# Altium integrated library Linear Technology Power Management PMIC Multifunction.IntLib: 360 symbols (part 40 of 42)
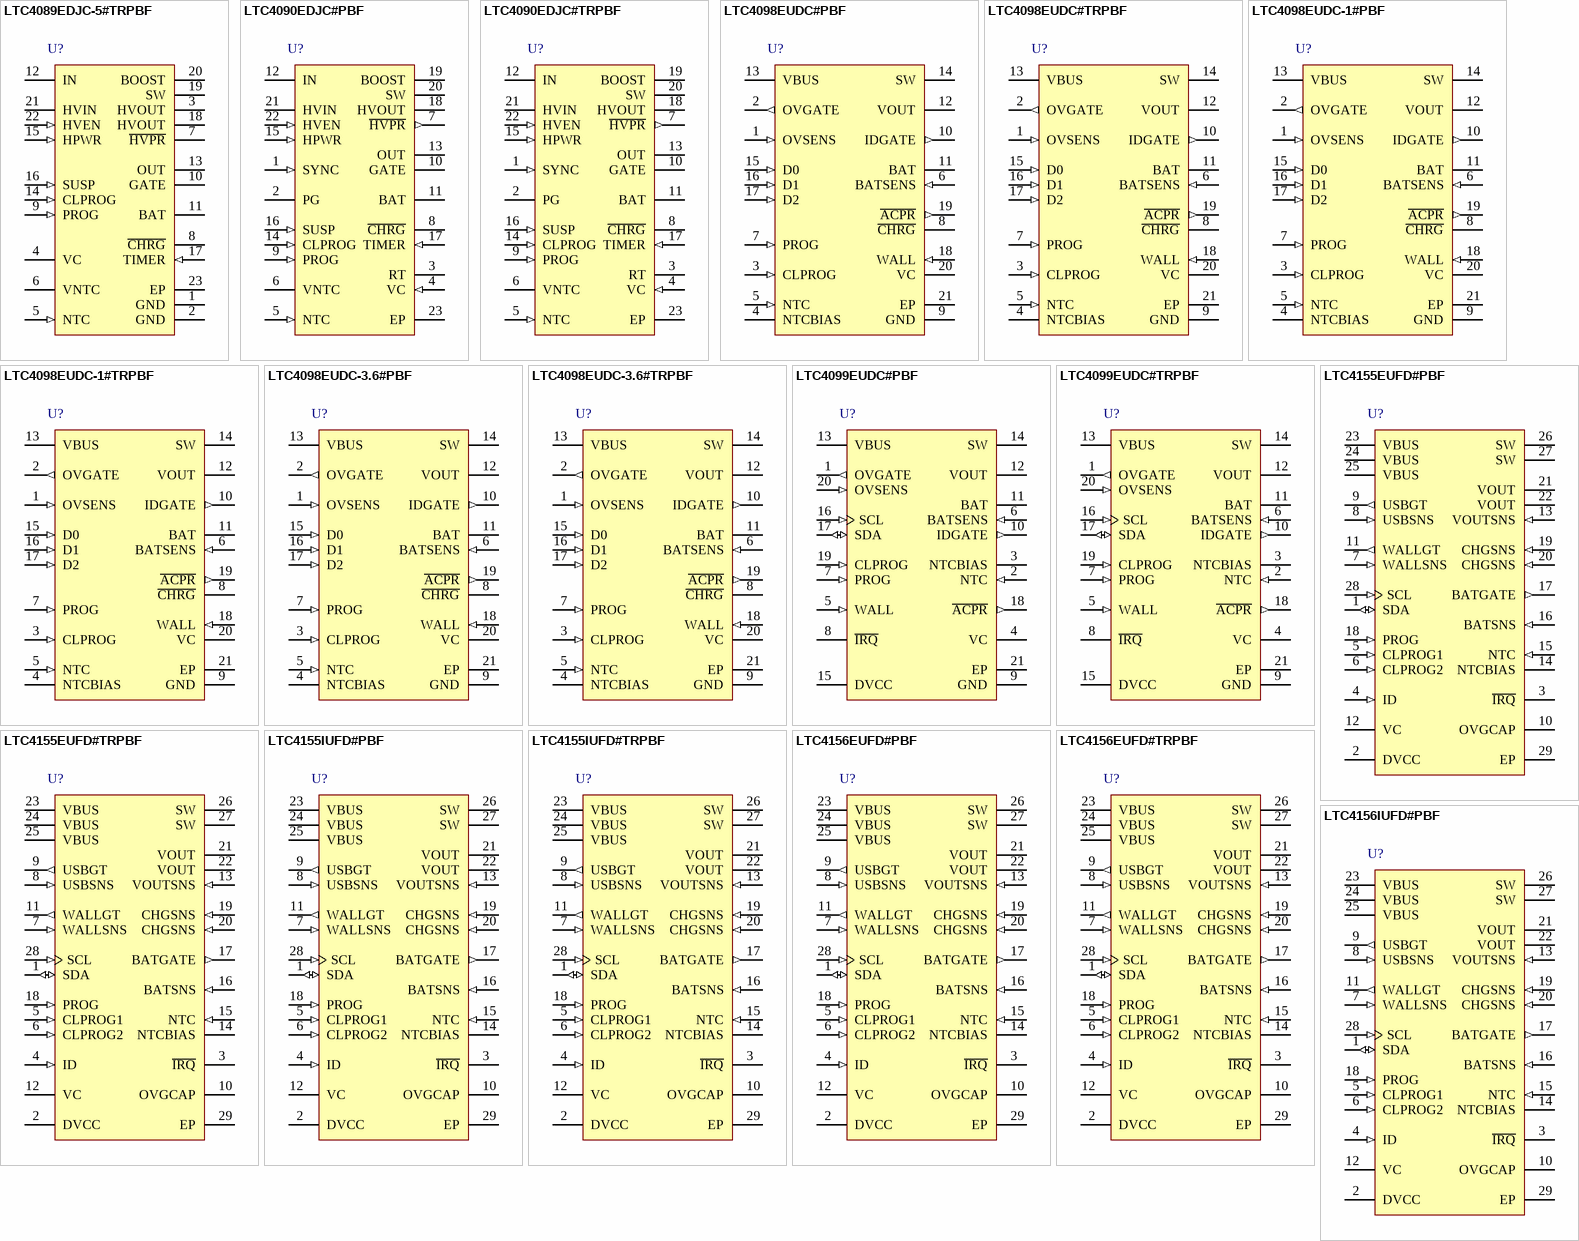
[diagram p57: symbols LTC4089EDJC-5#TRPBF to LTC4156IUFD#PBF]

## LTC4098EUDC-1#TRPBF
designator U?
USB Compatible Switching Power Manager / Li-Ion Charger with Overvoltage Protection, 4.35 to 5.5 V Vin, 20-pin QFN (UDC-20), -40 to 85 degC, Pb-Free, Tape and Reel; Manufacturer: Linear Technology; PartNumber: LTC4098EUDC-1#TRPBF; Number of Cells: 1; Vin Max(V): 5.5; Vin Min(V): 4.35; DatasheetVersion: Rev. C; PackageVersion: Rev. Ø, 06/2010; PackageReference: UDC20; PackageDescription: 20-Pin Plastic QFN, Body 3 x 4 mm, Pitch 0.5 mm; Supplier 1: Digi-Key; Supplier Part Number 1: LTC4098EUDC-1#TRPBF-ND; Number of Outputs: 1; Packing: Tape and Reel; RoHS: TRUE; Mounting Technology: Surface Mount; ComponentLink1Description: Manufacturer URL; ComponentLink1URL: http://www.linear.com/; ComponentLink2Description: Datasheet; ComponentLink2URL: http://cds.linear.com/docs/en/datasheet/40981fc.pdf; ComponentLink3Description: Package Specification; ComponentLink3URL: http://cds.linear.com/docs/en/packaging/QFN_20_05-08-1742.pdf
footprint LT-UDC-20_N (QFN, 20-Leads, Body 4.1x3.1mm, Pitch 0.5mm, Thermal Pad 2.65x1.65mm, IPC Medium Density)
footprint LT-UDC-20_L (QFN, 20-Leads, Body 4.1x3.1mm, Pitch 0.5mm, Thermal Pad 2.65x1.65mm, IPC High Density)
footprint LT-UDC-20_M (QFN, 20-Leads, Body 4.1x3.1mm, Pitch 0.5mm, Thermal Pad 2.65x1.65mm, IPC Low Density)
pins: 1 OVSENS (in), 2 OVGATE (out), 3 CLPROG (in) "USB Current Limit Program and Monitor Pin. A 1% resistor from CLPROG to ground determines the upper limit of the current drawn from the VBUS pin. A precise fraction of the input current, hCLPROG, is sent to the CLPROG pin (See Datasheet)", 4 NTCBIAS "NTC Thermistor Bias Output. If NTC operation is desired, connect a bias resistor between NTCBIAS and NTC, and an NTC thermistor between NTC and GND. To disable NTC operation, connect NTC to GND and leave NTCBIAS open.", 5 NTC (in) "Input to the NTC Thermistor Monitoring Circuits. The NTC pin connects to a negative temperature coefficient thermistor which is typically co-packaged with the battery pack to determine if the battery is too hot or too cold (See Datasheet)", 6 BATSENS (in), 7 PROG (in) "Charge Current Program and Charge Current Monitor Pin. Connecting a 1% resistor from PROG to ground programs the charge current. If sufficient input power is available in constant-current mode, this pin servos to 1V.", 8 ~{CHRG} (hiz) "Open-Drain Charge Status Output. The C\H\R\G\ pin indicates the status of the battery charger. Four possible states are represented by C\H\R\G\: charging, not charging, unresponsive battery and battery temperature out of (See Datasheet)", 9 GND (power), 10 IDGATE (out) "Ideal Diode Amplifier Output. This pin controls the gate of an external P-channel MOSFET transistor used to supplement the internal ideal diode. The source of the P-channel MOSFET should be connected to VOUT and the drain (See Datasheet)", 11 BAT (power), 12 VOUT (power), 13 VBUS (power) "Input Voltage for the Switching PowerPath Controller. VBUS will usually be connected to the USB port of a computer or a DC output wall adapter. VBUS should be bypassed with a low impedance multilayer ceramic capacitor.", 14 SW (power) "The SW pin delivers power from VBUS to VOUT via the step-down switching regulator. An inductor should be connected from SW to VOUT . See the Applications Information section for a discussion of inductance value and current (See Datasheet)", 15 D0 (in), 16 D1 (in), 17 D2 (in), 18 WALL (in), 19 ~{ACPR} (out), 20 VC "Bat-Track External Switching Regulator Control Output. This pin drives the VC pin of a Linear Technology external step-down switching regulator. In concert with WALL and A\C\P\R\, it will regulate VOUT to maximize battery (See Datasheet)", 21 EP (power)

## LTC4098EUDC-3.6#PBF
designator U?
USB Compatible Switching Power Manager / LiFePO4 Charger with Overvoltage Protection, 4.35 to 5.5 V Vin, 20-pin QFN (UDC-20), -40 to 85 degC, Pb-Free; Manufacturer: Linear Technology; PartNumber: LTC4098EUDC-3.6#PBF; Number of Cells: 1; Vin Max(V): 5.5; Vin Min(V): 4.35; PackageVersion: Rev. Ø, 06/2010; PackageReference: UDC20; PackageDescription: 20-Pin Plastic QFN, Body 3 x 4 mm, Pitch 0.5 mm; Supplier 1: Digi-Key; Supplier Part Number 1: LTC4098EUDC-3.6#PBF-ND; Supplier 2: Farnell; Supplier Part Number 2: 2295380; Supplier 3: Newark; Supplier Part Number 3: 84R6714; Number of Outputs: 1; RoHS: TRUE; Mounting Technology: Surface Mount; ComponentLink1Description: Manufacturer URL; ComponentLink1URL: http://www.linear.com/; ComponentLink2Description: Datasheet; ComponentLink2URL: http://cds.linear.com/docs/en/datasheet/409836f.pdf; ComponentLink3Description: Package Specification; ComponentLink3URL: http://cds.linear.com/docs/en/packaging/QFN_20_05-08-1742.pdf
footprint LT-UDC-20_N (QFN, 20-Leads, Body 4.1x3.1mm, Pitch 0.5mm, Thermal Pad 2.65x1.65mm, IPC Medium Density)
footprint LT-UDC-20_L (QFN, 20-Leads, Body 4.1x3.1mm, Pitch 0.5mm, Thermal Pad 2.65x1.65mm, IPC High Density)
footprint LT-UDC-20_M (QFN, 20-Leads, Body 4.1x3.1mm, Pitch 0.5mm, Thermal Pad 2.65x1.65mm, IPC Low Density)
pins: 1 OVSENS (in), 2 OVGATE (out), 3 CLPROG (in) "USB Current Limit Program and Monitor Pin. A 1% resistor from CLPROG to ground determines the upper limit of the current drawn from the VBUS pin. A precise fraction of the input current, hCLPROG, is sent to the CLPROG pin (See Datasheet)", 4 NTCBIAS "NTC Thermistor Bias Output. If NTC operation is desired, connect a bias resistor between NTCBIAS and NTC, and an NTC thermistor between NTC and GND. To disable NTC operation, connect NTC to GND and leave NTCBIAS open.", 5 NTC (in) "Input to the NTC Thermistor Monitoring Circuits. The NTC pin connects to a negative temperature coefficient thermistor which is typically co-packaged with the battery pack to determine if the battery is too hot or too cold (See Datasheet)", 6 BATSENS (in), 7 PROG (in) "Charge Current Program and Charge Current Monitor Pin. Connecting a 1% resistor from PROG to ground programs the charge current. If sufficient input power is available in constant-current mode, this pin servos to 1V.", 8 ~{CHRG} (hiz) "Open-Drain Charge Status Output. The C\H\R\G\ pin indicates the status of the battery charger. Four possible states are represented by C\H\R\G\: charging, not charging, unresponsive battery and battery temperature out of (See Datasheet)", 9 GND (power), 10 IDGATE (out) "Ideal Diode Amplifier Output. This pin controls the gate of an external P-channel MOSFET transistor used to supplement the internal ideal diode. The source of the P-channel MOSFET should be connected to VOUT and the drain (See Datasheet)", 11 BAT (power), 12 VOUT (power), 13 VBUS (power) "Input Voltage for the Switching PowerPath Controller. VBUS will usually be connected to the USB port of a computer or a DC output wall adapter. VBUS should be bypassed with a low impedance multilayer ceramic capacitor.", 14 SW (power) "The SW pin delivers power from VBUS to VOUT via the step-down switching regulator. An inductor should be connected from SW to VOUT . See the Applications Information section for a discussion of inductance value and current (See Datasheet)", 15 D0 (in), 16 D1 (in), 17 D2 (in), 18 WALL (in), 19 ~{ACPR} (out), 20 VC "Bat-Track External Switching Regulator Control Output. This pin drives the VC pin of a Linear Technology external step-down switching regulator. In concert with WALL and A\C\P\R\, it will regulate VOUT to maximize battery (See Datasheet)", 21 EP (power)

## LTC4098EUDC-3.6#TRPBF
designator U?
USB Compatible Switching Power Manager / LiFePO4 Charger with Overvoltage Protection, 4.35 to 5.5 V Vin, 20-pin QFN (UDC-20), -40 to 85 degC, Pb-Free, Tape and Reel; Manufacturer: Linear Technology; PartNumber: LTC4098EUDC-3.6#TRPBF; Number of Cells: 1; Vin Max(V): 5.5; Vin Min(V): 4.35; PackageVersion: Rev. Ø, 06/2010; PackageReference: UDC20; PackageDescription: 20-Pin Plastic QFN, Body 3 x 4 mm, Pitch 0.5 mm; Supplier 1: Digi-Key; Supplier Part Number 1: LTC4098EUDC-3.6#TRPBF-ND; Number of Outputs: 1; Packing: Tape and Reel; RoHS: TRUE; Mounting Technology: Surface Mount; ComponentLink1Description: Manufacturer URL; ComponentLink1URL: http://www.linear.com/; ComponentLink2Description: Datasheet; ComponentLink2URL: http://cds.linear.com/docs/en/datasheet/409836f.pdf; ComponentLink3Description: Package Specification; ComponentLink3URL: http://cds.linear.com/docs/en/packaging/QFN_20_05-08-1742.pdf
footprint LT-UDC-20_N (QFN, 20-Leads, Body 4.1x3.1mm, Pitch 0.5mm, Thermal Pad 2.65x1.65mm, IPC Medium Density)
footprint LT-UDC-20_L (QFN, 20-Leads, Body 4.1x3.1mm, Pitch 0.5mm, Thermal Pad 2.65x1.65mm, IPC High Density)
footprint LT-UDC-20_M (QFN, 20-Leads, Body 4.1x3.1mm, Pitch 0.5mm, Thermal Pad 2.65x1.65mm, IPC Low Density)
pins: 1 OVSENS (in), 2 OVGATE (out), 3 CLPROG (in) "USB Current Limit Program and Monitor Pin. A 1% resistor from CLPROG to ground determines the upper limit of the current drawn from the VBUS pin. A precise fraction of the input current, hCLPROG, is sent to the CLPROG pin (See Datasheet)", 4 NTCBIAS "NTC Thermistor Bias Output. If NTC operation is desired, connect a bias resistor between NTCBIAS and NTC, and an NTC thermistor between NTC and GND. To disable NTC operation, connect NTC to GND and leave NTCBIAS open.", 5 NTC (in) "Input to the NTC Thermistor Monitoring Circuits. The NTC pin connects to a negative temperature coefficient thermistor which is typically co-packaged with the battery pack to determine if the battery is too hot or too cold (See Datasheet)", 6 BATSENS (in), 7 PROG (in) "Charge Current Program and Charge Current Monitor Pin. Connecting a 1% resistor from PROG to ground programs the charge current. If sufficient input power is available in constant-current mode, this pin servos to 1V.", 8 ~{CHRG} (hiz) "Open-Drain Charge Status Output. The C\H\R\G\ pin indicates the status of the battery charger. Four possible states are represented by C\H\R\G\: charging, not charging, unresponsive battery and battery temperature out of (See Datasheet)", 9 GND (power), 10 IDGATE (out) "Ideal Diode Amplifier Output. This pin controls the gate of an external P-channel MOSFET transistor used to supplement the internal ideal diode. The source of the P-channel MOSFET should be connected to VOUT and the drain (See Datasheet)", 11 BAT (power), 12 VOUT (power), 13 VBUS (power) "Input Voltage for the Switching PowerPath Controller. VBUS will usually be connected to the USB port of a computer or a DC output wall adapter. VBUS should be bypassed with a low impedance multilayer ceramic capacitor.", 14 SW (power) "The SW pin delivers power from VBUS to VOUT via the step-down switching regulator. An inductor should be connected from SW to VOUT . See the Applications Information section for a discussion of inductance value and current (See Datasheet)", 15 D0 (in), 16 D1 (in), 17 D2 (in), 18 WALL (in), 19 ~{ACPR} (out), 20 VC "Bat-Track External Switching Regulator Control Output. This pin drives the VC pin of a Linear Technology external step-down switching regulator. In concert with WALL and A\C\P\R\, it will regulate VOUT to maximize battery (See Datasheet)", 21 EP (power)

## LTC4099EUDC#PBF
designator U?
I2C Controlled USB Power Manager / Charger with Overvoltage Protection, 4.35 to 5.5 V Vin, 20-pin QFN (UDC-20), -40 to 85 degC, Pb-Free; Manufacturer: Linear Technology; PartNumber: LTC4099EUDC#PBF; Number of Cells: 1; Vin Max(V): 5.5; Vin Min(V): 4.35; DatasheetVersion: Rev. D; PackageVersion: Rev. Ø, 06/2010; PackageReference: UDC20; PackageDescription: 20-Pin Plastic QFN, Body 3 x 4 mm, Pitch 0.5 mm; Supplier 1: Digi-Key; Supplier Part Number 1: LTC4099EUDC#PBF-ND; Supplier 2: Newark; Supplier Part Number 2: 51R1515; Number of Outputs: 1; RoHS: TRUE; Mounting Technology: Surface Mount; ComponentLink1Description: Manufacturer URL; ComponentLink1URL: http://www.linear.com/; ComponentLink2Description: Datasheet; ComponentLink2URL: http://cds.linear.com/docs/en/datasheet/4099fd.pdf; ComponentLink3Description: Package Specification; ComponentLink3URL: http://cds.linear.com/docs/en/packaging/QFN_20_05-08-1742.pdf
footprint LT-UDC-20_N (QFN, 20-Leads, Body 4.1x3.1mm, Pitch 0.5mm, Thermal Pad 2.65x1.65mm, IPC Medium Density)
footprint LT-UDC-20_L (QFN, 20-Leads, Body 4.1x3.1mm, Pitch 0.5mm, Thermal Pad 2.65x1.65mm, IPC High Density)
footprint LT-UDC-20_M (QFN, 20-Leads, Body 4.1x3.1mm, Pitch 0.5mm, Thermal Pad 2.65x1.65mm, IPC Low Density)
pins: 1 OVGATE (out) "Overvoltage Protection Gate Output. Connect OVGATE to the gate pin of an external N-channel MOSFET pass transistor. The source of the transistor should be connected to VBUS and the drain should be connected to the (See Datasheet)", 2 NTC (in) "Input to the Negative Temperature Coefficient Thermistor Monitoring Circuit. The NTC pin connects to a negative temperature coefficient thermistor which is typically copackaged with the battery to determine if the battery is (See Datasheet)", 3 NTCBIAS "NTC Thermistor Bias Output. Connect a bias resistor between NTCBIAS and NTC, and a thermistor between NTC and GND.", 4 VC "Bat-Track Auxiliary Switching Regulator Control Output. This pin drives the VC pin of an external Linear Technology step-down switching regulator. In conjunction with WALL and A\C\P\R\, it will regulate VOUT to maximize (See Datasheet)", 5 WALL (in) "Auxiliary Power Source Sense Input. WALL is used to determine when power is available from an auxiliary power source. When power is detected, A\C\P\R\ is driven low and the USB input is automatically disabled.", 6 BATSENS (in) "Battery Voltage Sense Input. For proper operation, this pin must always be connected to BAT. For best operation, connect BATSENS to BAT physically close to the Li-Ion cell.", 7 PROG (in) "Charge Current Program and Charge Current Monitor Pin. Connecting a resistor from PROG to ground programs the charge current. If sufficient input power is available in constant-current mode, this pin servos to one of eight (See Datasheet)", 8 ~{IRQ} (oc) "Open-Drain Interrupt Output. The I\R\Q\ pin can be used to generate an interrupt due to a multitude of maskable status change events within the LTC4099. See Table 1.", 9 GND (power) "Ground", 10 IDGATE (out) "Ideal Diode Amplifier Output. This pin controls the gate of an external P-channel MOSFET transistor used to supplement the internal ideal diode. The source of the P-channel MOSFET should be connected to VOUT and the drain (See Datasheet)", 11 BAT (power) "Single-Cell Li-Ion Battery Pin. Depending on available power and load, a Li-Ion battery on BAT will either deliver system power to VOUT through the ideal diode or be charged from the battery charger.", 12 VOUT (power) "Output Voltage of the Switching PowerPath Controller and Input Voltage of the Battery Charger. The majority of the portable product should be powered from VOUT. The LTC4099 will partition the available power between the (See Datasheet)", 13 VBUS (power) "Input Voltage for the Switching PowerPath Controller. VBUS will usually be connected to the USB port of a computer or a DC output wall adapter. VBUS should be bypassed with a low impedance multilayer ceramic capacitor.", 14 SW (power) "Switching Regulator Power Transmission Pin. The SW pin delivers power from VBUS to VOUT via the step-down switching regulator. An inductor should be connected from SW to VOUT. See the Applications Information section for a (See Datasheet)", 15 DVCC (power) "Logic Reference for the I2C Serial Port. A 0.01uF bypass capacitor is required.", 16 SCL (in) "Clock Input for the I2C Serial Port. The I2C input levels are scaled with respect to DVCC.", 17 SDA (io) "Data Input/Output for the I2C Serial Port. The I2C input levels are scaled with respect to DVCC.", 18 ~{ACPR} (out) "Auxiliary Power Source Present Output (Active Low). A\C\P\R\ indicates that the output of an external high voltage step-down switching regulator connected to WALL is suitable for use by the LTC4099. A\C\P\R\ may be connected (See Datasheet)", 19 CLPROG (in) "USB Current Limit Program and Monitor Pin. A 1% resistor from CLPROG to ground determines the upper limit of the current drawn from the VBUS pin. A precise fraction of the input current, hCLPROG, is sent to the CLPROG pin (See Datasheet)", 20 OVSENS (in) "Overvoltage Protection Sense Input. OVSENS should be connected through a 6.2k resistor to the input power connector and the drain of an external N-channel MOSFET pass transistor. When the voltage on this pin exceed(See Datasheet)", 21 EP (power) "The Exposed Pad and pin must be soldered to the PCB to provide a low electrical and thermal impedance connection to ground."

## LTC4099EUDC#TRPBF
designator U?
I2C Controlled USB Power Manager / Charger with Overvoltage Protection, 4.35 to 5.5 V Vin, 20-pin QFN (UDC-20), -40 to 85 degC, Pb-Free, Tape and Reel; Manufacturer: Linear Technology; PartNumber: LTC4099EUDC#TRPBF; Number of Cells: 1; Vin Max(V): 5.5; Vin Min(V): 4.35; DatasheetVersion: Rev. D; PackageVersion: Rev. Ø, 06/2010; PackageReference: UDC20; PackageDescription: 20-Pin Plastic QFN, Body 3 x 4 mm, Pitch 0.5 mm; Supplier 1: Digi-Key; Supplier Part Number 1: LTC4099EUDC#TRPBF-ND; Supplier 2: Newark; Supplier Part Number 2: 72R5704; Number of Outputs: 1; Packing: Tape and Reel; RoHS: TRUE; Mounting Technology: Surface Mount; ComponentLink1Description: Manufacturer URL; ComponentLink1URL: http://www.linear.com/; ComponentLink2Description: Datasheet; ComponentLink2URL: http://cds.linear.com/docs/en/datasheet/4099fd.pdf; ComponentLink3Description: Package Specification; ComponentLink3URL: http://cds.linear.com/docs/en/packaging/QFN_20_05-08-1742.pdf
footprint LT-UDC-20_N (QFN, 20-Leads, Body 4.1x3.1mm, Pitch 0.5mm, Thermal Pad 2.65x1.65mm, IPC Medium Density)
footprint LT-UDC-20_L (QFN, 20-Leads, Body 4.1x3.1mm, Pitch 0.5mm, Thermal Pad 2.65x1.65mm, IPC High Density)
footprint LT-UDC-20_M (QFN, 20-Leads, Body 4.1x3.1mm, Pitch 0.5mm, Thermal Pad 2.65x1.65mm, IPC Low Density)
pins: 1 OVGATE (out) "Overvoltage Protection Gate Output. Connect OVGATE to the gate pin of an external N-channel MOSFET pass transistor. The source of the transistor should be connected to VBUS and the drain should be connected to the (See Datasheet)", 2 NTC (in) "Input to the Negative Temperature Coefficient Thermistor Monitoring Circuit. The NTC pin connects to a negative temperature coefficient thermistor which is typically copackaged with the battery to determine if the battery is (See Datasheet)", 3 NTCBIAS "NTC Thermistor Bias Output. Connect a bias resistor between NTCBIAS and NTC, and a thermistor between NTC and GND.", 4 VC "Bat-Track Auxiliary Switching Regulator Control Output. This pin drives the VC pin of an external Linear Technology step-down switching regulator. In conjunction with WALL and A\C\P\R\, it will regulate VOUT to maximize (See Datasheet)", 5 WALL (in) "Auxiliary Power Source Sense Input. WALL is used to determine when power is available from an auxiliary power source. When power is detected, A\C\P\R\ is driven low and the USB input is automatically disabled.", 6 BATSENS (in) "Battery Voltage Sense Input. For proper operation, this pin must always be connected to BAT. For best operation, connect BATSENS to BAT physically close to the Li-Ion cell.", 7 PROG (in) "Charge Current Program and Charge Current Monitor Pin. Connecting a resistor from PROG to ground programs the charge current. If sufficient input power is available in constant-current mode, this pin servos to one of eight (See Datasheet)", 8 ~{IRQ} (oc) "Open-Drain Interrupt Output. The I\R\Q\ pin can be used to generate an interrupt due to a multitude of maskable status change events within the LTC4099. See Table 1.", 9 GND (power) "Ground", 10 IDGATE (out) "Ideal Diode Amplifier Output. This pin controls the gate of an external P-channel MOSFET transistor used to supplement the internal ideal diode. The source of the P-channel MOSFET should be connected to VOUT and the drain (See Datasheet)", 11 BAT (power) "Single-Cell Li-Ion Battery Pin. Depending on available power and load, a Li-Ion battery on BAT will either deliver system power to VOUT through the ideal diode or be charged from the battery charger.", 12 VOUT (power) "Output Voltage of the Switching PowerPath Controller and Input Voltage of the Battery Charger. The majority of the portable product should be powered from VOUT. The LTC4099 will partition the available power between the (See Datasheet)", 13 VBUS (power) "Input Voltage for the Switching PowerPath Controller. VBUS will usually be connected to the USB port of a computer or a DC output wall adapter. VBUS should be bypassed with a low impedance multilayer ceramic capacitor.", 14 SW (power) "Switching Regulator Power Transmission Pin. The SW pin delivers power from VBUS to VOUT via the step-down switching regulator. An inductor should be connected from SW to VOUT. See the Applications Information section for a (See Datasheet)", 15 DVCC (power) "Logic Reference for the I2C Serial Port. A 0.01uF bypass capacitor is required.", 16 SCL (in) "Clock Input for the I2C Serial Port. The I2C input levels are scaled with respect to DVCC.", 17 SDA (io) "Data Input/Output for the I2C Serial Port. The I2C input levels are scaled with respect to DVCC.", 18 ~{ACPR} (out) "Auxiliary Power Source Present Output (Active Low). A\C\P\R\ indicates that the output of an external high voltage step-down switching regulator connected to WALL is suitable for use by the LTC4099. A\C\P\R\ may be connected (See Datasheet)", 19 CLPROG (in) "USB Current Limit Program and Monitor Pin. A 1% resistor from CLPROG to ground determines the upper limit of the current drawn from the VBUS pin. A precise fraction of the input current, hCLPROG, is sent to the CLPROG pin (See Datasheet)", 20 OVSENS (in) "Overvoltage Protection Sense Input. OVSENS should be connected through a 6.2k resistor to the input power connector and the drain of an external N-channel MOSFET pass transistor. When the voltage on this pin exceed(See Datasheet)", 21 EP (power) "The Exposed Pad and pin must be soldered to the PCB to provide a low electrical and thermal impedance connection to ground."

## LTC4155EUFD#PBF
designator U?
Dual Input Power Manager / 3.5 A Li-Ion Battery Charger with I2C Control and USB OTG, 4.35 to 5.5 V Vin, 28-pin QFN (UFD-28), -40 to 125 degC, Pb-Free; Manufacturer: Linear Technology; PartNumber: LTC4155EUFD#PBF; Number of Cells: 1; Number of Outputs: 2; Vin Max(V): 5.5; Vin Min(V): 4.35; DatasheetVersion: Rev. C; PackageVersion: Rev. B, 06/2010; PackageReference: UFD-28; PackageDescription: 28-Pin Plastic QFN, Body 5 x 4 mm, Pitch 0.5 mm; Supplier 1: Digi-Key; Supplier Part Number 1: LTC4155EUFD#PBF-ND; Supplier 2: Farnell; Supplier Part Number 2: 2097934; Supplier 3: Newark; Supplier Part Number 3: 59T9364; RoHS: TRUE; Mounting Technology: Surface Mount; Code_JEDEC: MO-220; ComponentLink1Description: Manufacturer URL; ComponentLink1URL: http://www.linear.com/; ComponentLink2Description: Datasheet; ComponentLink2URL: http://cds.linear.com/docs/en/datasheet/4155fc.pdf; ComponentLink3Description: Package Specification; ComponentLink3URL: http://cds.linear.com/docs/en/packaging/QFN_28_05-08-1712.pdf
footprint LT-UFD-28_N (QFN, 28-Leads, Body 5.1x4.1mm, Pitch 0.5mm, Thermal Pad 3.65x2.65mm, IPC Medium Density)
footprint LT-UFD-28_L (QFN, 28-Leads, Body 5.1x4.1mm, Pitch 0.5mm, Thermal Pad 3.65x2.65mm, IPC High Density)
footprint LT-UFD-28_M (QFN, 28-Leads, Body 5.1x4.1mm, Pitch 0.5mm, Thermal Pad 3.65x2.65mm, IPC Low Density)
pins: 1 SDA (io) "Data Input/Output for the I2C Serial Port. The I2C input levels are scaled with respect to DVCC for I2C compliance.", 2 DVCC (power) "Logic Supply for the I2C Serial Port. DVCC sets the reference level of the SDA and SCL pins for I2C compliance. It should be connected to the same power supply used to power the I2C pull-up resistors.", 3 ~{IRQ} (oc) "Open-Drain Interrupt Output. The I\R\Q\ pin can be used to generate an interrupt due to a variety of maskable status change events within the LTC4155.", 4 ID (in) "USB A-Device Detection Pin. When wired to a mini- or micro-USB connector, the ID pin detects when the “A” side of a mini or micro-USB cable is connected to the product. If the ID pin is pulled down, and (See Datasheet)", 5 CLPROG1 (in) "Primary VBUS Current Limit Programming Pin. A resistor from CLPROG1 to ground determines the upper limit of the current drawn from the VBUS pin when CLPROG1 is selected. A precise measure of VBUS current, hCLPROG1 -1, is (See Datasheet)", 6 CLPROG2 (in) "Secondary VBUS Current Limit Program Pin. CLPROG2 controls the VBUS current limit when either selected via I2C command or when CLPROG1 and CLPROG2 are shorted together. When selected, a resistor from CLPROG2 to ground (See Datasheet)", 7 WALLSNS (in) "Highest Priority Multiplexer Input and Overvoltage Protection Sense Input. WALLSNS should be connected through a 3.6k resistor to a high priority input power connector and one drain of two source-connected N-channel MOSFET (See Datasheet)", 8 USBSNS (in) "Lowest Priority Multiplexer Input and Overvoltage Protection Sense Input. USBSNS should be connected through a 3.6k resistor to a low priority input power connector and one drain of two source-connected N-channel MOSFET pass (See Datasheet)", 9 USBGT (out) "Overvoltage Protection and Priority Multiplexer Gate Output. Connect USBGT to the gate pins of two source-connected external N-channel MOSFET pass transistors. One drain of the transistors should be connected to VBUS and the (See Datasheet)", 10 OVGCAP "Overvoltage Protection Capacitor Output. A 0.1uF capacitor should be connected from OVGCAP to GND. OVGCAP is used to store charge so that it can be rapidly moved to WALLGT or USBGT. This feature provides faster power (See Datasheet)", 11 WALLGT (out) "Overvoltage Protection and Priority Multiplexer Gate Output. Connect WALLGT to the gate pins of two source-connected external N-channel MOSFET pass transistors. One drain of the transistors should be connected to VBUS and (See Datasheet)", 12 VC "Compensation Pin. A 0.047uF ceramic capacitor on this pin compensates the switching regulator control loops.", 13 VOUTSNS (in) "Output Voltage Sense Input. Connecting VOUTSNS directly to the VOUT bypass capacitor ensures that VOUT regulates at the correct level.", 14 NTCBIAS "NTC Thermistor Bias Output. Connect a bias resistor between NTCBIAS and NTC, and a thermistor between NTC and GND. The value of the bias resistor should usually be equal to the nominal value of the thermistor.", 15 NTC (in) "Input to the Negative Temperature Coefficient Thermistor Monitoring Circuit. The NTC pin connects to a negative temperature coefficient thermistor, which is typically copackaged with the battery, to determine if the battery (See Datasheet)", 16 BATSNS (in) "Battery Voltage Sense Input. For proper operation, this pin must always be connected to the battery. For fastest charging, connect BATSNS physically close to the Lithium-Ion cell’s positive terminal. Depending upo(See Datasheet)", 17 BATGATE (out) "Battery Charger and Ideal Diode Amplifier Control Output. This pin controls the gate of an external P-channel MOSFET transistor used to charge the Lithium-Ion cell and to provide power to VOUT when the system load exceeds (See Datasheet)", 18 PROG (in) "Charge Current Program and Monitor Pin. A resistor from PROG to GND programs the maximum battery charge rate. The LTC4155 features I2C programmability enabling software selection of fifteen charge currents that are inversely (See Datasheet)", 19 CHGSNS (in) "Battery Charger Current Sense Pin. An internal current sense resistor between VOUT and CHGSNS monitors battery charge current. CHGSNS should be connected to the source of an external P-channel MOSFET transistor.", 20 CHGSNS (in) "Battery Charger Current Sense Pin. An internal current sense resistor between VOUT and CHGSNS monitors battery charge current. CHGSNS should be connected to the source of an external P-channel MOSFET transistor.", 21 VOUT (power) "Output Voltage of the Switching PowerPath Controller and Input Voltage of the Battery Charging System. The majority of the portable product should be powered from VOUT. The LTC4155 will partition the available power between (See Datasheet)", 22 VOUT (power) "Output Voltage of the Switching PowerPath Controller and Input Voltage of the Battery Charging System. The majority of the portable product should be powered from VOUT. The LTC4155 will partition the available power between (See Datasheet)", 23 VBUS (power) "Input Voltage for the PowerPath Step-Down Switching Regulator and Output Voltage for the USB On-The-Go Step-Up Switching Regulator. VBUS may be connected to the USB port of a computer or a DC output wall adapter or to one or (See Datasheet)", 24 VBUS (power) "Input Voltage for the PowerPath Step-Down Switching Regulator and Output Voltage for the USB On-The-Go Step-Up Switching Regulator. VBUS may be connected to the USB port of a computer or a DC output wall adapter or to one or (See Datasheet)", 25 VBUS (power) "Input Voltage for the PowerPath Step-Down Switching Regulator and Output Voltage for the USB On-The-Go Step-Up Switching Regulator. VBUS may be connected to the USB port of a computer or a DC output wall adapter or to one or (See Datasheet)", 26 SW (power) "Switching Regulator Power Transmission Pin. The SW pin delivers power from VBUS to VOUT via the step-down switching regulator and from VOUT to VBUS via the step-up switching regulator. A 1uH inductor should be connected from (See Datasheet)", 27 SW (power) "Switching Regulator Power Transmission Pin. The SW pin delivers power from VBUS to VOUT via the step-down switching regulator and from VOUT to VBUS via the step-up switching regulator. A 1uH inductor should be connected from (See Datasheet)", 28 SCL (in) "Clock Input for the I2C Serial Port. The I2C input levels are scaled with respect to DVCC for I2C compliance.", 29 EP (power) "Exposed pad must be soldered to the PCB to provide a low electrical and thermal impedance connection to the printed circuit board’s ground. A continuous ground plane on the second layer of a multilayer printed circui(See Datasheet)"

## LTC4155EUFD#TRPBF
designator U?
Dual Input Power Manager / 3.5 A Li-Ion Battery Charger with I2C Control and USB OTG, 4.35 to 5.5 V Vin, 28-pin QFN (UFD-28), -40 to 125 degC, Pb-Free, Tape and Reel; Manufacturer: Linear Technology; PartNumber: LTC4155EUFD#TRPBF; Number of Cells: 1; Number of Outputs: 2; Vin Max(V): 5.5; Vin Min(V): 4.35; DatasheetVersion: Rev. C; PackageVersion: Rev. B, 06/2010; PackageReference: UFD-28; PackageDescription: 28-Pin Plastic QFN, Body 5 x 4 mm, Pitch 0.5 mm; Supplier 1: Digi-Key; Supplier Part Number 1: LTC4155EUFD#TRPBF-ND; Packing: Tape and Reel; RoHS: TRUE; Mounting Technology: Surface Mount; Code_JEDEC: MO-220; ComponentLink1Description: Manufacturer URL; ComponentLink1URL: http://www.linear.com/; ComponentLink2Description: Datasheet; ComponentLink2URL: http://cds.linear.com/docs/en/datasheet/4155fc.pdf; ComponentLink3Description: Package Specification; ComponentLink3URL: http://cds.linear.com/docs/en/packaging/QFN_28_05-08-1712.pdf
footprint LT-UFD-28_N (QFN, 28-Leads, Body 5.1x4.1mm, Pitch 0.5mm, Thermal Pad 3.65x2.65mm, IPC Medium Density)
footprint LT-UFD-28_L (QFN, 28-Leads, Body 5.1x4.1mm, Pitch 0.5mm, Thermal Pad 3.65x2.65mm, IPC High Density)
footprint LT-UFD-28_M (QFN, 28-Leads, Body 5.1x4.1mm, Pitch 0.5mm, Thermal Pad 3.65x2.65mm, IPC Low Density)
pins: 1 SDA (io) "Data Input/Output for the I2C Serial Port. The I2C input levels are scaled with respect to DVCC for I2C compliance.", 2 DVCC (power) "Logic Supply for the I2C Serial Port. DVCC sets the reference level of the SDA and SCL pins for I2C compliance. It should be connected to the same power supply used to power the I2C pull-up resistors.", 3 ~{IRQ} (oc) "Open-Drain Interrupt Output. The I\R\Q\ pin can be used to generate an interrupt due to a variety of maskable status change events within the LTC4155.", 4 ID (in) "USB A-Device Detection Pin. When wired to a mini- or micro-USB connector, the ID pin detects when the “A” side of a mini or micro-USB cable is connected to the product. If the ID pin is pulled down, and (See Datasheet)", 5 CLPROG1 (in) "Primary VBUS Current Limit Programming Pin. A resistor from CLPROG1 to ground determines the upper limit of the current drawn from the VBUS pin when CLPROG1 is selected. A precise measure of VBUS current, hCLPROG1 -1, is (See Datasheet)", 6 CLPROG2 (in) "Secondary VBUS Current Limit Program Pin. CLPROG2 controls the VBUS current limit when either selected via I2C command or when CLPROG1 and CLPROG2 are shorted together. When selected, a resistor from CLPROG2 to ground (See Datasheet)", 7 WALLSNS (in) "Highest Priority Multiplexer Input and Overvoltage Protection Sense Input. WALLSNS should be connected through a 3.6k resistor to a high priority input power connector and one drain of two source-connected N-channel MOSFET (See Datasheet)", 8 USBSNS (in) "Lowest Priority Multiplexer Input and Overvoltage Protection Sense Input. USBSNS should be connected through a 3.6k resistor to a low priority input power connector and one drain of two source-connected N-channel MOSFET pass (See Datasheet)", 9 USBGT (out) "Overvoltage Protection and Priority Multiplexer Gate Output. Connect USBGT to the gate pins of two source-connected external N-channel MOSFET pass transistors. One drain of the transistors should be connected to VBUS and the (See Datasheet)", 10 OVGCAP "Overvoltage Protection Capacitor Output. A 0.1uF capacitor should be connected from OVGCAP to GND. OVGCAP is used to store charge so that it can be rapidly moved to WALLGT or USBGT. This feature provides faster power (See Datasheet)", 11 WALLGT (out) "Overvoltage Protection and Priority Multiplexer Gate Output. Connect WALLGT to the gate pins of two source-connected external N-channel MOSFET pass transistors. One drain of the transistors should be connected to VBUS and (See Datasheet)", 12 VC "Compensation Pin. A 0.047uF ceramic capacitor on this pin compensates the switching regulator control loops.", 13 VOUTSNS (in) "Output Voltage Sense Input. Connecting VOUTSNS directly to the VOUT bypass capacitor ensures that VOUT regulates at the correct level.", 14 NTCBIAS "NTC Thermistor Bias Output. Connect a bias resistor between NTCBIAS and NTC, and a thermistor between NTC and GND. The value of the bias resistor should usually be equal to the nominal value of the thermistor.", 15 NTC (in) "Input to the Negative Temperature Coefficient Thermistor Monitoring Circuit. The NTC pin connects to a negative temperature coefficient thermistor, which is typically copackaged with the battery, to determine if the battery (See Datasheet)", 16 BATSNS (in) "Battery Voltage Sense Input. For proper operation, this pin must always be connected to the battery. For fastest charging, connect BATSNS physically close to the Lithium-Ion cell’s positive terminal. Depending upo(See Datasheet)", 17 BATGATE (out) "Battery Charger and Ideal Diode Amplifier Control Output. This pin controls the gate of an external P-channel MOSFET transistor used to charge the Lithium-Ion cell and to provide power to VOUT when the system load exceeds (See Datasheet)", 18 PROG (in) "Charge Current Program and Monitor Pin. A resistor from PROG to GND programs the maximum battery charge rate. The LTC4155 features I2C programmability enabling software selection of fifteen charge currents that are inversely (See Datasheet)", 19 CHGSNS (in) "Battery Charger Current Sense Pin. An internal current sense resistor between VOUT and CHGSNS monitors battery charge current. CHGSNS should be connected to the source of an external P-channel MOSFET transistor.", 20 CHGSNS (in) "Battery Charger Current Sense Pin. An internal current sense resistor between VOUT and CHGSNS monitors battery charge current. CHGSNS should be connected to the source of an external P-channel MOSFET transistor.", 21 VOUT (power) "Output Voltage of the Switching PowerPath Controller and Input Voltage of the Battery Charging System. The majority of the portable product should be powered from VOUT. The LTC4155 will partition the available power between (See Datasheet)", 22 VOUT (power) "Output Voltage of the Switching PowerPath Controller and Input Voltage of the Battery Charging System. The majority of the portable product should be powered from VOUT. The LTC4155 will partition the available power between (See Datasheet)", 23 VBUS (power) "Input Voltage for the PowerPath Step-Down Switching Regulator and Output Voltage for the USB On-The-Go Step-Up Switching Regulator. VBUS may be connected to the USB port of a computer or a DC output wall adapter or to one or (See Datasheet)", 24 VBUS (power) "Input Voltage for the PowerPath Step-Down Switching Regulator and Output Voltage for the USB On-The-Go Step-Up Switching Regulator. VBUS may be connected to the USB port of a computer or a DC output wall adapter or to one or (See Datasheet)", 25 VBUS (power) "Input Voltage for the PowerPath Step-Down Switching Regulator and Output Voltage for the USB On-The-Go Step-Up Switching Regulator. VBUS may be connected to the USB port of a computer or a DC output wall adapter or to one or (See Datasheet)", 26 SW (power) "Switching Regulator Power Transmission Pin. The SW pin delivers power from VBUS to VOUT via the step-down switching regulator and from VOUT to VBUS via the step-up switching regulator. A 1uH inductor should be connected from (See Datasheet)", 27 SW (power) "Switching Regulator Power Transmission Pin. The SW pin delivers power from VBUS to VOUT via the step-down switching regulator and from VOUT to VBUS via the step-up switching regulator. A 1uH inductor should be connected from (See Datasheet)", 28 SCL (in) "Clock Input for the I2C Serial Port. The I2C input levels are scaled with respect to DVCC for I2C compliance.", 29 EP (power) "Exposed pad must be soldered to the PCB to provide a low electrical and thermal impedance connection to the printed circuit board’s ground. A continuous ground plane on the second layer of a multilayer printed circui(See Datasheet)"

## LTC4155IUFD#PBF
designator U?
Dual Input Power Manager / 3.5 A Li-Ion Battery Charger with I2C Control and USB OTG, 4.35 to 5.5 V Vin, 28-pin QFN (UFD-28), -40 to 125 degC, Pb-Free; Manufacturer: Linear Technology; PartNumber: LTC4155IUFD#PBF; Number of Cells: 1; Number of Outputs: 2; Vin Max(V): 5.5; Vin Min(V): 4.35; DatasheetVersion: Rev. C; PackageVersion: Rev. B, 06/2010; PackageReference: UFD-28; PackageDescription: 28-Pin Plastic QFN, Body 5 x 4 mm, Pitch 0.5 mm; Supplier 1: Digi-Key; Supplier Part Number 1: LTC4155IUFD#PBF-ND; Supplier 2: Newark; Supplier Part Number 2: 59T9366; RoHS: TRUE; Mounting Technology: Surface Mount; Code_JEDEC: MO-220; ComponentLink1Description: Manufacturer URL; ComponentLink1URL: http://www.linear.com/; ComponentLink2Description: Datasheet; ComponentLink2URL: http://cds.linear.com/docs/en/datasheet/4155fc.pdf; ComponentLink3Description: Package Specification; ComponentLink3URL: http://cds.linear.com/docs/en/packaging/QFN_28_05-08-1712.pdf
footprint LT-UFD-28_N (QFN, 28-Leads, Body 5.1x4.1mm, Pitch 0.5mm, Thermal Pad 3.65x2.65mm, IPC Medium Density)
footprint LT-UFD-28_L (QFN, 28-Leads, Body 5.1x4.1mm, Pitch 0.5mm, Thermal Pad 3.65x2.65mm, IPC High Density)
footprint LT-UFD-28_M (QFN, 28-Leads, Body 5.1x4.1mm, Pitch 0.5mm, Thermal Pad 3.65x2.65mm, IPC Low Density)
pins: 1 SDA (io) "Data Input/Output for the I2C Serial Port. The I2C input levels are scaled with respect to DVCC for I2C compliance.", 2 DVCC (power) "Logic Supply for the I2C Serial Port. DVCC sets the reference level of the SDA and SCL pins for I2C compliance. It should be connected to the same power supply used to power the I2C pull-up resistors.", 3 ~{IRQ} (oc) "Open-Drain Interrupt Output. The I\R\Q\ pin can be used to generate an interrupt due to a variety of maskable status change events within the LTC4155.", 4 ID (in) "USB A-Device Detection Pin. When wired to a mini- or micro-USB connector, the ID pin detects when the “A” side of a mini or micro-USB cable is connected to the product. If the ID pin is pulled down, and (See Datasheet)", 5 CLPROG1 (in) "Primary VBUS Current Limit Programming Pin. A resistor from CLPROG1 to ground determines the upper limit of the current drawn from the VBUS pin when CLPROG1 is selected. A precise measure of VBUS current, hCLPROG1 -1, is (See Datasheet)", 6 CLPROG2 (in) "Secondary VBUS Current Limit Program Pin. CLPROG2 controls the VBUS current limit when either selected via I2C command or when CLPROG1 and CLPROG2 are shorted together. When selected, a resistor from CLPROG2 to ground (See Datasheet)", 7 WALLSNS (in) "Highest Priority Multiplexer Input and Overvoltage Protection Sense Input. WALLSNS should be connected through a 3.6k resistor to a high priority input power connector and one drain of two source-connected N-channel MOSFET (See Datasheet)", 8 USBSNS (in) "Lowest Priority Multiplexer Input and Overvoltage Protection Sense Input. USBSNS should be connected through a 3.6k resistor to a low priority input power connector and one drain of two source-connected N-channel MOSFET pass (See Datasheet)", 9 USBGT (out) "Overvoltage Protection and Priority Multiplexer Gate Output. Connect USBGT to the gate pins of two source-connected external N-channel MOSFET pass transistors. One drain of the transistors should be connected to VBUS and the (See Datasheet)", 10 OVGCAP "Overvoltage Protection Capacitor Output. A 0.1uF capacitor should be connected from OVGCAP to GND. OVGCAP is used to store charge so that it can be rapidly moved to WALLGT or USBGT. This feature provides faster power (See Datasheet)", 11 WALLGT (out) "Overvoltage Protection and Priority Multiplexer Gate Output. Connect WALLGT to the gate pins of two source-connected external N-channel MOSFET pass transistors. One drain of the transistors should be connected to VBUS and (See Datasheet)", 12 VC "Compensation Pin. A 0.047uF ceramic capacitor on this pin compensates the switching regulator control loops.", 13 VOUTSNS (in) "Output Voltage Sense Input. Connecting VOUTSNS directly to the VOUT bypass capacitor ensures that VOUT regulates at the correct level.", 14 NTCBIAS "NTC Thermistor Bias Output. Connect a bias resistor between NTCBIAS and NTC, and a thermistor between NTC and GND. The value of the bias resistor should usually be equal to the nominal value of the thermistor.", 15 NTC (in) "Input to the Negative Temperature Coefficient Thermistor Monitoring Circuit. The NTC pin connects to a negative temperature coefficient thermistor, which is typically copackaged with the battery, to determine if the battery (See Datasheet)", 16 BATSNS (in) "Battery Voltage Sense Input. For proper operation, this pin must always be connected to the battery. For fastest charging, connect BATSNS physically close to the Lithium-Ion cell’s positive terminal. Depending upo(See Datasheet)", 17 BATGATE (out) "Battery Charger and Ideal Diode Amplifier Control Output. This pin controls the gate of an external P-channel MOSFET transistor used to charge the Lithium-Ion cell and to provide power to VOUT when the system load exceeds (See Datasheet)", 18 PROG (in) "Charge Current Program and Monitor Pin. A resistor from PROG to GND programs the maximum battery charge rate. The LTC4155 features I2C programmability enabling software selection of fifteen charge currents that are inversely (See Datasheet)", 19 CHGSNS (in) "Battery Charger Current Sense Pin. An internal current sense resistor between VOUT and CHGSNS monitors battery charge current. CHGSNS should be connected to the source of an external P-channel MOSFET transistor.", 20 CHGSNS (in) "Battery Charger Current Sense Pin. An internal current sense resistor between VOUT and CHGSNS monitors battery charge current. CHGSNS should be connected to the source of an external P-channel MOSFET transistor.", 21 VOUT (power) "Output Voltage of the Switching PowerPath Controller and Input Voltage of the Battery Charging System. The majority of the portable product should be powered from VOUT. The LTC4155 will partition the available power between (See Datasheet)", 22 VOUT (power) "Output Voltage of the Switching PowerPath Controller and Input Voltage of the Battery Charging System. The majority of the portable product should be powered from VOUT. The LTC4155 will partition the available power between (See Datasheet)", 23 VBUS (power) "Input Voltage for the PowerPath Step-Down Switching Regulator and Output Voltage for the USB On-The-Go Step-Up Switching Regulator. VBUS may be connected to the USB port of a computer or a DC output wall adapter or to one or (See Datasheet)", 24 VBUS (power) "Input Voltage for the PowerPath Step-Down Switching Regulator and Output Voltage for the USB On-The-Go Step-Up Switching Regulator. VBUS may be connected to the USB port of a computer or a DC output wall adapter or to one or (See Datasheet)", 25 VBUS (power) "Input Voltage for the PowerPath Step-Down Switching Regulator and Output Voltage for the USB On-The-Go Step-Up Switching Regulator. VBUS may be connected to the USB port of a computer or a DC output wall adapter or to one or (See Datasheet)", 26 SW (power) "Switching Regulator Power Transmission Pin. The SW pin delivers power from VBUS to VOUT via the step-down switching regulator and from VOUT to VBUS via the step-up switching regulator. A 1uH inductor should be connected from (See Datasheet)", 27 SW (power) "Switching Regulator Power Transmission Pin. The SW pin delivers power from VBUS to VOUT via the step-down switching regulator and from VOUT to VBUS via the step-up switching regulator. A 1uH inductor should be connected from (See Datasheet)", 28 SCL (in) "Clock Input for the I2C Serial Port. The I2C input levels are scaled with respect to DVCC for I2C compliance.", 29 EP (power) "Exposed pad must be soldered to the PCB to provide a low electrical and thermal impedance connection to the printed circuit board’s ground. A continuous ground plane on the second layer of a multilayer printed circui(See Datasheet)"